# EAGLE library part STM32L031G6U6 (library HBPMouse)
ARM Microcontrollers - MCU Ultra-low-power ARM Cortex-M0+ MCU with 32-Kbytes Flash, 32 MHz CPU Source: Datasheet <http://www.mouser.com/datasheet/2/389/stm32l031g4-956322.pdf>
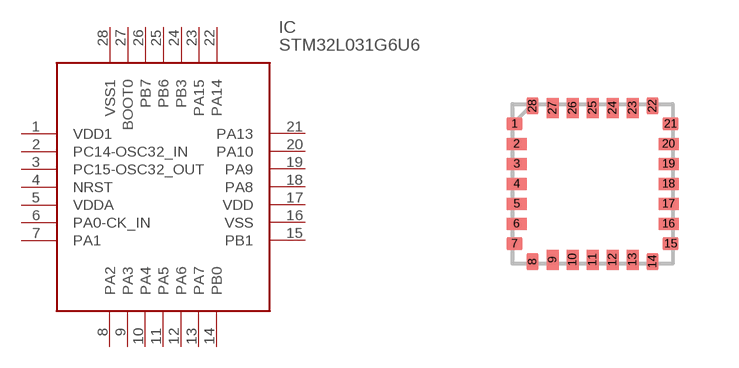
[diagram p2: symbol with the pads of QFN50P400X400X60-28N; footprint QFN50P400X400X60-28N]

Designator prefix IC

## STM32L031G6U6 (DESCRIPTION: ARM Microcontrollers - MCU Ultra-low-power ARM Cortex-M0+ MCU with 32-Kbytes Flash, 32 MHz CPU; HEIGHT: 0.6mm; MANUFACTURER_NAME: STMicroelectronics; MANUFACTURER_PART_NUMBER: STM32L031G6U6; MOUSER_PART_NUMBER: 511-STM32L031G6U6; MOUSER_PRICE-STOCK: https://www.mouser.com/Search/Refine.aspx?Keyword=511-STM32L031G6U6)  [QFN50P400X400X60-28N]
1  VDD1  pwr
2  PC14-OSC32_IN
3  PC15-OSC32_OUT
4  NRST  in
5  VDDA  pwr
6  PA0-CK_IN
7  PA1
8  PA2
9  PA3
10  PA4
11  PA5
12  PA6
13  PA7
14  PB0
15  PB1
16  VSS  pwr
17  VDD  pwr
18  PA8
19  PA9
20  PA10
21  PA13
22  PA14
23  PA15
24  PB3
25  PB6
26  PB7
27  BOOT0  in
28  VSS1  pwr

## Footprint QFN50P400X400X60-28N (pad centres in mm)
UFQPN28 (4x4mm)
smd 0.4 x 0.3: 1 -1.95,1.5; 7 -1.95,-1.5; 15 1.95,-1.5; 21 1.95,1.5
smd 0.5 x 0.3: 2 -1.9,1; 3 -1.9,0.5; 4 -1.9,0; 5 -1.9,-0.5; 6 -1.9,-1; 16 1.9,-1; 17 1.9,-0.5; 18 1.9,0; 19 1.9,0.5; 20 1.9,1
smd 0.3 x 0.4: 8 -1.5,-1.95; 14 1.5,-1.95; 22 1.5,1.95; 28 -1.5,1.95
smd 0.3 x 0.5: 9 -1,-1.9; 10 -0.5,-1.9; 11 0,-1.9; 12 0.5,-1.9; 13 1,-1.9; 23 1,1.9; 24 0.5,1.9; 25 0,1.9; 26 -0.5,1.9; 27 -1,1.9